# Altium footprint library SparkFun-Electromechanical.PCBLIB: 151 footprints (part 1 of 11)
Each footprint in its own frame and in the unit in brackets; x right, y up, seen from the top. Pads: shape width x height; smd on the part's side, far side on the other; paste and mask are expansions set on the pad; w line width, h text height; cw(c..) or ccw(c..) is an arc to the next point about the centre after c.
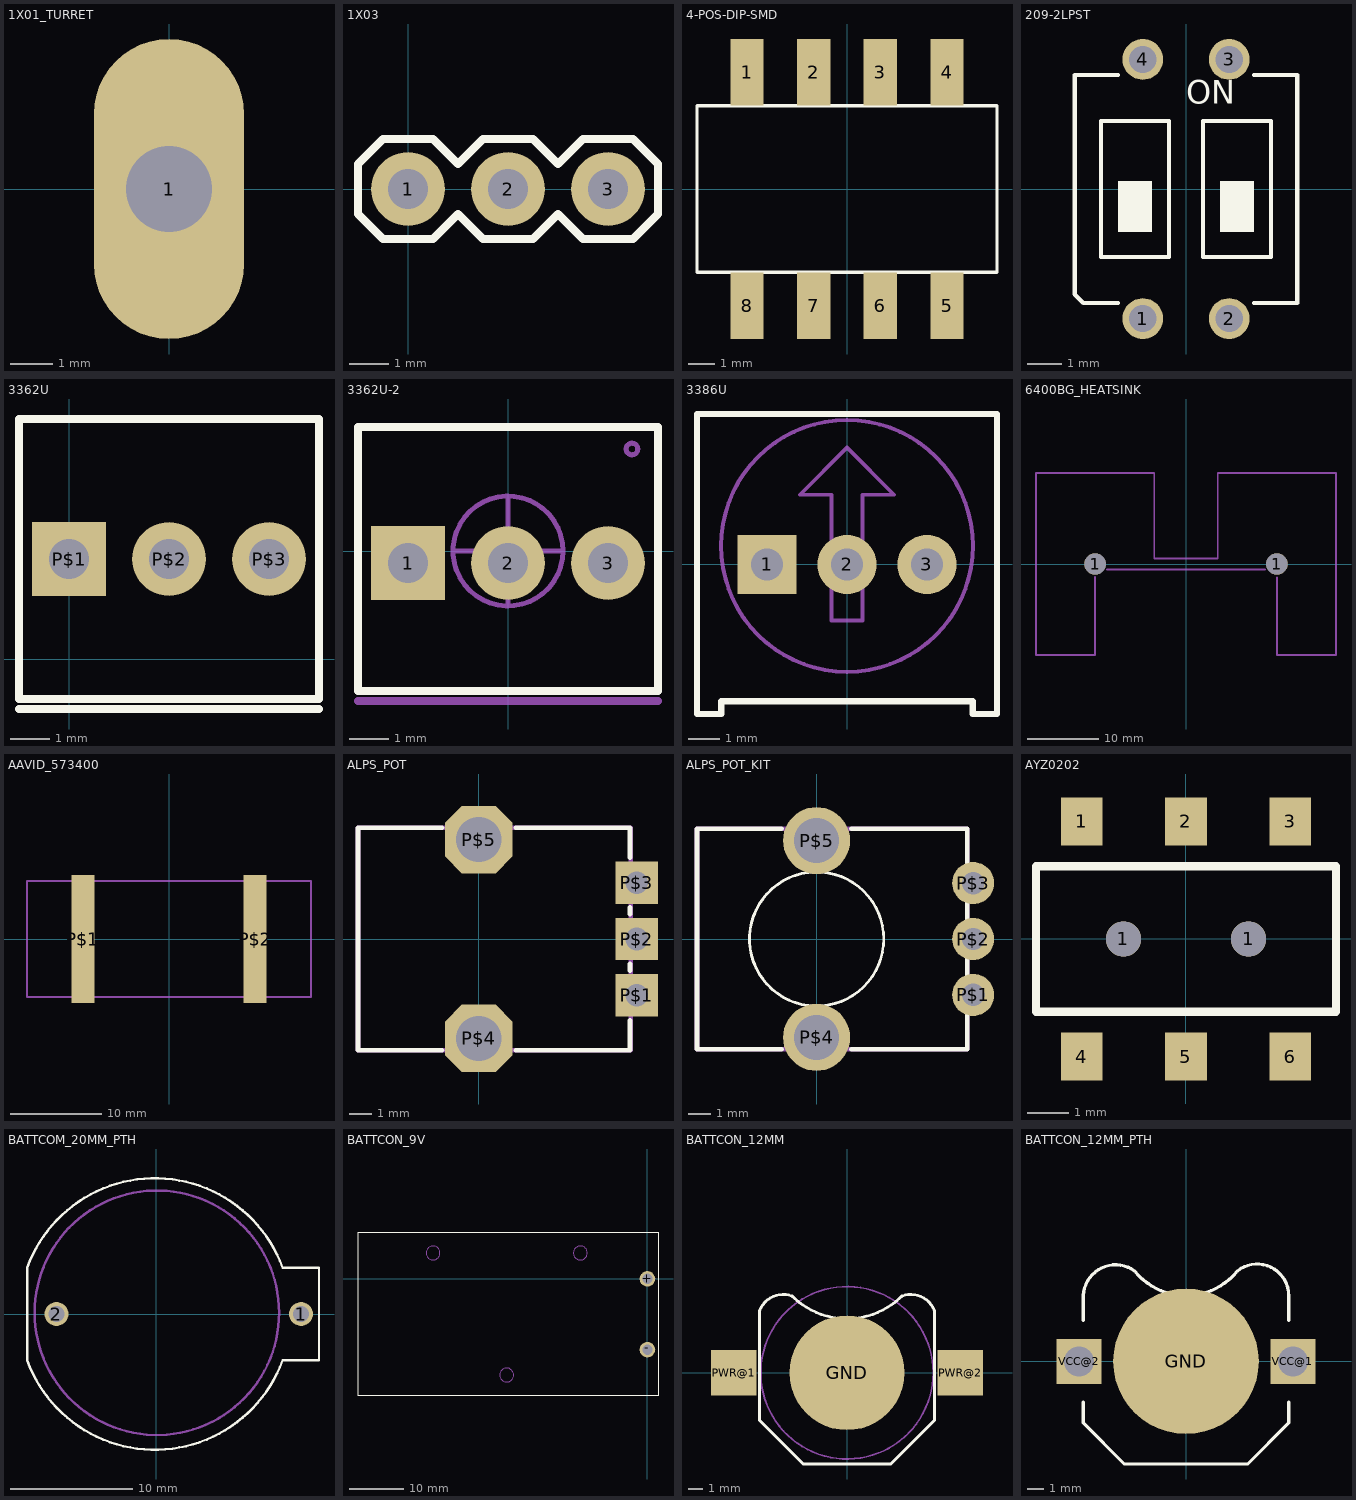
[diagram p0: the footprints below, top view; thin cyan lines are the x and y axes]

## 1X01_TURRET [mil]
pads (1):
  oval 140x280 hole 80: 1(0,0)
Mechanical 16:
  circle w5: c0,0 r65.76

## 1X03 [mil]
pads (3):
  round 74 hole 40: 1(0,0) 2(100,0) 3(200,0)
Top Overlay:
  lines w8: -50,-25 -50,25 -25,50 25,50 50,25 75,50 125,50 150,25 175,50 225,50 250,25 250,-25 225,-50 175,-50 150,-25 125,-50 75,-50 50,-25 25,-50 -25,-50 -50,-25
Mechanical 16:
  rectangle: 190,-10 210,10
  rectangle: 90,-10 110,10
  rectangle: -10,-10 10,10

## 4-POS-DIP-SMD [mil]
pads (8):
  rect 50x100 smd: 1(-150,175) 2(-50,175) 3(50,175) 4(150,175) 5(150,-175) 6(50,-175) 7(-50,-175) 8(-150,-175)
Top Overlay:
  lines w5: -225,-125 225,-125 225,125 -225,125 -225,-125

## 209-2LPST [mil]
pads (4):
  round 47.25 hole 31.5: 1(-50,-150) 2(50,-150) 3(50,150) 4(-50,150)
Top Overlay:
  rectangle: -78.74,-50 -39.37,9.06
  rectangle: 39.37,-50 78.74,9.06
  lines w5: -78.74,-131.89 -118.94,-131.89 -128.94,-121.89 -128.94,131.89 -78.74,131.89 ; 78.74,-131.89 128.94,-131.89 128.94,131.89 ; 78.74,131.89 128.74,131.89 ; -98.43,-78.74 -98.43,78.74 -19.69,78.74 -19.69,-78.74 -98.43,-78.74 ; 19.69,-78.74 19.69,78.74 98.43,78.74 98.43,-78.74 19.69,-78.74
  text "ON" at 0,98.43 h27.2

## 3362U [mil]
pads (3):
  rect 74x74 hole 40: P$1(0,100)
  round 74 hole 40: P$2(100,100) P$3(200,100)
Top Overlay:
  lines w8: -50,-50 250,-50 ; -50,-40 250,-40 250,240 -50,240 -50,-40

## 3362U-2 [mil]
pads (3):
  rect 74x74 hole 40: 1(-100,-12)
  round 74 hole 40: 2(0,-12) 3(100,-12)
Top Overlay:
  lines w8: -150,-140 150,-140 150,124 -150,124 -150,-140
Mechanical 16:
  circle w5: c0,0 r55
  circle w5: c124,102 r5.83
  lines w5: -55,0 55,0 ; 0,-55 0,55
  lines w8: -150,-150 150,-150

## 3386U [mil]
pads (3):
  rect 74x74 hole 40: 1(-100,-0.59)
  round 74 hole 40: 2(0,-0.59) 3(100,-0.59)
Top Overlay:
  lines w8: -187.6,-187.6 -157.48,-187.6 -157.48,-171.85 157.48,-171.85 157.48,-187.6 187.6,-187.6 187.6,187.6 -187.6,187.6 -187.6,-187.6
Mechanical 16:
  circle w5: c0,22.64 r157.48
  lines w5: -59.06,86.61 -19.69,86.61 -19.69,-70.87 19.69,-70.87 19.69,86.61 59.06,86.61 0,145.67 -59.06,86.61

## 6400BG_HEATSINK [mil]
pads (2):
  round 118 hole 118: 1(-500,0) 1(500,0)
Mechanical 16:
  lines w10: -500,-70 -500,-500 -825,-500 -825,500 -175,500 -175,31 175,31 175,500 825,500 825,-500 500,-500 500,-75 ; -435,-31 435,-31

## AAVID_573400 [mil]
pads (2):
  rect 100x550 smd: P$1(-370,0) P$2(370,0)
Mechanical 16:
  rectangle: -395,-250 -345,250
  rectangle: 345,-250 395,250
  lines w8: -610,-250 610,-250 610,250 -610,250 -610,-250

## ALPS_POT [mm]
pads (5):
  rect 1.88x1.88 hole 1: P$1(7,-2.5) P$2(7,0) P$3(7,2.5)
  oct 3x3 hole 2: P$4(0,-4.4) P$5(0,4.4)
Top Overlay:
  lines w0.203: -1.625,-4.93 -5.346,-4.93 -5.346,4.93 -1.625,4.93 ; 1.639,-4.93 6.7,-4.93 ; 1.64,4.93 6.7,4.93 6.7,3.6 ; 6.7,-4.9 6.7,-3.6 ; 6.7,-1.4 6.7,-1.1 ; 6.7,1.1 6.7,1.4
Mechanical 16:
  lines w0.203: -5.346,-4.93 6.73,-4.93 6.73,4.93 -5.346,4.93 -5.346,-4.93

## ALPS_POT_KIT [mm]
pads (5):
  round 1.88 hole 1: P$1(7,-2.5) P$2(7,0) P$3(7,2.5)
  round 3 hole 2: P$4(0,-4.4) P$5(0,4.4)
Top Overlay:
  circle w0.127: c0,0 r3
  lines w0.203: -1.55,-4.93 -5.346,-4.93 -5.346,4.93 -1.55,4.93 ; 1.55,-4.93 6.73,-4.93 6.73,4.93 1.55,4.93
Top Solder:
  circle w0: c0,4.4 r1
  circle w0: c0,-4.4 r1
  circle w0: c7,2.5 r0.5
  circle w0: c7,0 r0.5
  circle w0: c7,-2.5 r0.5
Bottom Solder:
  circle w0: c0,-4.4 r1.626
  circle w0: c7,2.5 r1.067
  circle w0: c7,0 r1.067
  circle w0: c7,-2.5 r1.067
  circle w0: c0,4.4 r1.626
Mechanical 16:
  lines w0.203: -5.346,-4.93 6.73,-4.93 6.73,4.93 -5.346,4.93 -5.346,-4.93

## AYZ0202 [mm]
pads (8):
  rect 1x1.15 smd: 1(-2.5,2.825) 2(0,2.825) 3(2.5,2.825) 4(-2.5,-2.825) 5(0,-2.825) 6(2.5,-2.825)
  round 0.85 hole 0.85: 1(-1.5,0) 1(1.5,0)
Top Overlay:
  lines w0.203: -3.6,-1.75 -3.6,1.75 3.6,1.75 3.6,-1.75 -3.6,-1.75

## BATTCOM_20MM_PTH [mil]
pads (2):
  round 76.77 hole 51.18: 1(466.54,0) 2(-320.87,0)
Top Overlay:
  lines w8: -414.96,-149.61 -414.96,149.61 cw(c-3.94,-0.57) 407.09,149.61 524.41,149.61 524.41,-149.61 407.09,-149.61 cw(c-3.94,0.57) -414.96,-149.61
Mechanical 16:
  circle w8: c2.36,3.94 r393.7
  text "+" at 338.58,-27.56 h77.5
  text "-" at -251.97,-27.56 h77.5

## BATTCON_9V [mil]
pads (2):
  round 112.5 hole 75: +(0,0) -(0,-510)
Top Overlay:
  lines w7: -2087,-843 76,-843 76,337 -2087,337 -2087,-843
Mechanical 16:
  circle w5: c-1546,187 r50
  circle w5: c-484,187 r50
  circle w5: c-1015,-693 r50

## BATTCON_12MM [mil]
pads (3):
  rrect100% 314.96x314.96 smd: GND(0,0)
  rect 125x125 smd: PWR@1(-310,0) PWR@2(310,0)
Top Overlay:
  lines w8: -240,-130 -120,-250 120,-250 240,-130 240,170 ccw(c175,145) 150,210 cw(c0,360) -150,210 ccw(c-175,145) -240,170 -240,-130
Top Paste:
  circle w78.74: c0,0 r39.37
Mechanical 16:
  circle w5: c0,0 r236.22
Mechanical 27:
  circle w5: c0,0 r236.22

## BATTCON_12MM_PTH [mil]
pads (3):
  rrect100% 354.33x354.33 smd: GND(0,0)
  rect 109.5x109.5 hole 73: VCC@1(260,0) VCC@2(-260,0)
Top Overlay:
  lines w8: -250,-100 -250,-150 -150,-250 150,-250 250,-150 250,-100 ; -250,100 -250,160 cw(c-171.35,156.35) -125,220 ccw(c0,320.21) 125,220 cw(c173.12,160.04) 250,160 250,100
Top Paste:
  circle w78.74: c0,0 r39.37